# EAGLE library part RS0104YQ (library SSW-130-01-G-S)
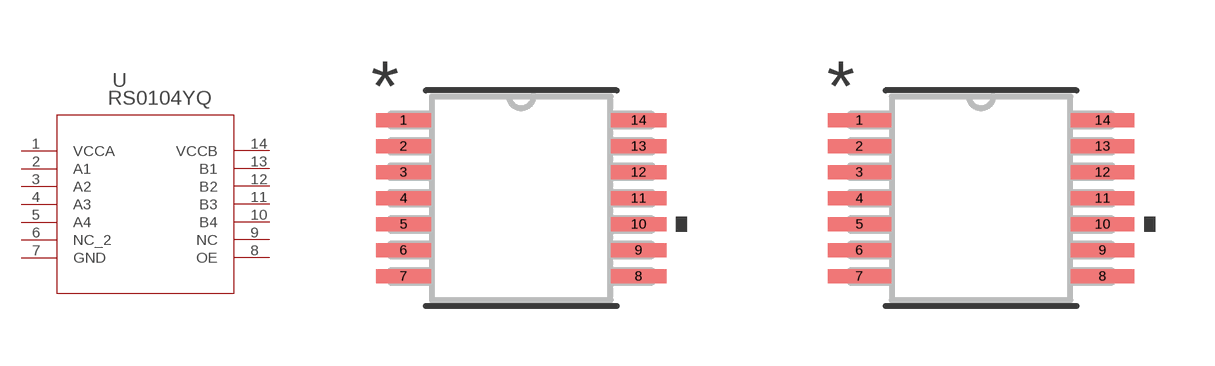
[diagram p10: symbol with the pads of TSSOP-14_JRT; footprints TSSOP-14_JRT, TSSOP-14_JRT-M]

Designator prefix U

## RS0104YQ (COPYRIGHT: Copyright (C) 2024 Ultra Librarian. All rights reserved.; MANUFACTURER_PART_NUMBER: RS0104YQ; MFR_NAME: RUNIC Technology; TYPE: Logic)  [TSSOP-14_JRT]
1  VCCA  pwr
2  A1
3  A2
4  A3
5  A4
6  NC_2  nc
7  GND  pas
8  OE  in
9  NC  nc
10  B4
11  B3
12  B2
13  B1
14  VCCB  pwr

## RS0104YQTSSOP-14_JRT-M (COPYRIGHT: Copyright (C) 2024 Ultra Librarian. All rights reserved.; MANUFACTURER_PART_NUMBER: RS0104YQ; MFR_NAME: RUNIC Technology; TYPE: Logic)  [TSSOP-14_JRT-M]
Pads as for TSSOP-14_JRT

## RS0104YQTSSOP-14_JRT-L (COPYRIGHT: Copyright (C) 2024 Ultra Librarian. All rights reserved.; MANUFACTURER_PART_NUMBER: RS0104YQ; MFR_NAME: RUNIC Technology; TYPE: Logic)  [TSSOP-14_JRT-L]
Pads as for TSSOP-14_JRT

## Footprint TSSOP-14_JRT (pad centres in mm)
smd 1.384 x 0.356: 1 -2.94,1.95; 2 -2.94,1.3; 3 -2.94,0.65; 4 -2.94,0; 5 -2.94,-0.65; 6 -2.94,-1.3; 7 -2.94,-1.95; 8 2.94,-1.95; 9 2.94,-1.3; 10 2.94,-0.65; 11 2.94,0; 12 2.94,0.65; 13 2.94,1.3; 14 2.94,1.95

## Footprint TSSOP-14_JRT-M (pad centres in mm)
smd 1.587 x 0.356: 1 -3.042,1.95; 2 -3.042,1.3; 3 -3.042,0.65; 4 -3.042,0; 5 -3.042,-0.65; 6 -3.042,-1.3; 7 -3.042,-1.95; 8 3.042,-1.95; 9 3.042,-1.3; 10 3.042,-0.65; 11 3.042,0; 12 3.042,0.65; 13 3.042,1.3; 14 3.042,1.95

## Footprint TSSOP-14_JRT-L (pad centres in mm)
smd 1.118 x 0.305: 1 -2.87,1.95; 2 -2.87,1.3; 3 -2.87,0.65; 4 -2.87,0; 5 -2.87,-0.65; 6 -2.87,-1.3; 7 -2.87,-1.95; 8 2.87,-1.95; 9 2.87,-1.3; 10 2.87,-0.65; 11 2.87,0; 12 2.87,0.65; 13 2.87,1.3; 14 2.87,1.95